# Altium footprint library PcbLib1.PcbLib: 4 footprints
Each footprint in its own frame and in the unit in brackets; x right, y up, seen from the top. Pads: shape width x height; smd on the part's side, far side on the other; paste and mask are expansions set on the pad; w line width, h text height; cw(c..) or ccw(c..) is an arc to the next point about the centre after c.
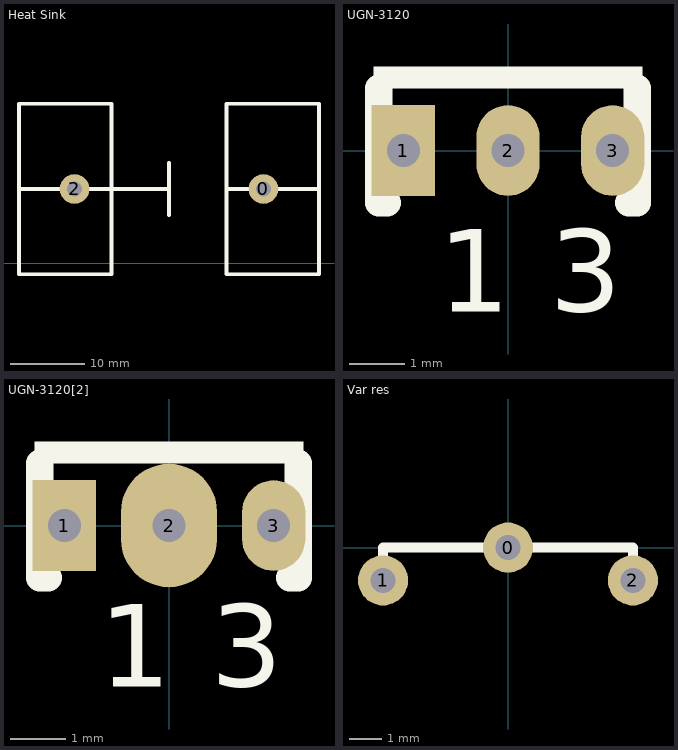
[diagram p0: the footprints below, top view; thin cyan lines are the x and y axes]

## Heat Sink [mm]
pads (2):
  round 4 hole 2: 0(35.5,10) 2(10,10)
Top Overlay:
  lines w0.5: 2.5,10 10,10 15,10 ; 22.75,6.5 22.75,10 ; 22.75,13.5 22.75,10 ; 2.5,-1.5 15,-1.5 15,10 ; 2.5,-1.5 2.5,-1.5 ; 2.5,-1.5 2.5,21.5 ; 2.5,21.5 2.5,21.5 ; 2.5,21.5 15,21.5 15,10 ; 15,10 22.75,10 ; 30.5,10 30.5,21.5 42.5,21.5 43,21.5 43,10 ; 30.5,10 30.5,-1.5 43,-1.5 43,10 ; 30.5,10 35.5,10 43,10

## UGN-3120 [mm]
pads (3):
  rect 1.15x1.65 hole 0.6: 1(-1.905,0)
  oval 1.15x1.65 hole 0.6: 2(0,0) 3(1.905,0)
Top Overlay:
  rectangle: -2.45,1.13 2.45,1.53
  lines w0.5: -2.35,1.13 -2.35,-0.95 -2.2,-0.95 ; 2.2,-0.95 2.35,-0.95 2.35,1.13
  text "3" at 0.762,-2.93 h1.5
  text "1" at -1.27,-2.93 h1.5

## UGN-3120[2] [mm]
pads (3):
  rect 1.15x1.65 hole 0.6: 1(-1.905,0)
  oval 1.75x2.25 hole 0.6: 2(0,0)
  oval 1.15x1.65 hole 0.6: 3(1.905,0)
Top Overlay:
  rectangle: -2.45,1.13 2.45,1.53
  lines w0.5: -2.35,1.13 -2.35,-0.95 -2.2,-0.95 ; 2.2,-0.95 2.35,-0.95 2.35,1.13
  text "3" at 0.762,-2.93 h1.5
  text "1" at -1.27,-2.93 h1.5

## Var res [mil]
pads (3):
  round 60 hole 30: 0(0,0) 1(-149.61,-39.37) 2(149.61,-39.37)
Top Overlay:
  lines w11.81: -149.61,-39.37 -149.61,0 0,0 149.61,0 149.61,-39.37